# Altium integrated library SmartLoad_LIB.IntLib: 50 symbols (part 2 of 2)
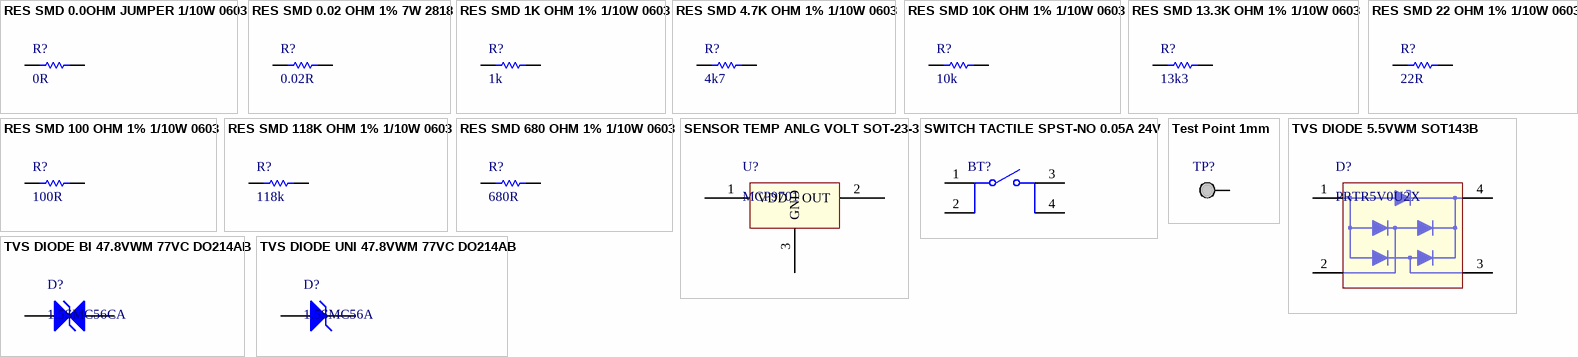
[diagram p2: symbols RES SMD 0.0OHM JUMPER 1/10W 0603 to TVS DIODE UNI 47.8VWM 77VC DO214AB]

## TVS DIODE 5.5VWM SOT143B
designator D?, comment PRTR5V0U2X
TVS DIODE 5.5VWM SOT143B; Manufacturer: NXP Semiconductors; Manufacturer Part Number: PRTR5V0U2X,215; Type: Steering (Rail to Rail); Unidirectional Channels: 2; Voltage - Reverse Standoff (Typ): 5.5V (Max); Voltage - Breakdown (Min): 6V; Power Line Protection: Yes; Capacitance @ Frequency: 1pF @ 1MHz; Supplier 1: Digi-Key; RoHS: RoHS Compliant; Category: Circuit Protection; Stock 1: 20795; Pricing 1: 1=0.52, 10=0.448, 100=0.3347, 500=0.26286, 1000=0.20265 (USD); Packaging: Cut Tape (CT); Part Status: Active; Bidirectional Channels: -; Voltage - Clamping (Max) @ Ipp: -; Current - Peak Pulse (10/1000µs): -; Power - Peak Pulse: -; Applications: General Purpose; Operating Temperature: -40°C ~ 85°C (TA); Mounting Type: Surface Mount; Package / Case: TO-253-4, TO-253AA; Supplier Device Package: SOT-143B; ComponentLink1URL: http://www.nxp.com/documents/data_sheet/PRTR5V0U2X.pdf; ComponentLink1Description: http://www.nxp.com/documents/data_sheet/PRTR5V0U2X.pdf; Supplier Part Number 1: 568-4140-1-ND
footprint SOT143 N (SOT143, 4-Leads, Body 2,90x2,30mm, Pitch 1,90mm, IPC Medium Density)
pins: 1, 2, 3, 4

## TVS DIODE BI 47.8VWM 77VC DO214AB
designator D?, comment 1.5SMC56CA
TVS DIODE 47.8VWM 77VC DO214AB; Manufacturer: Vishay Semiconductor Diodes Division; Manufacturer Part Number: 1.5SMC56CA-E3/57T; Type: Zener; Bidirectional Channels: 1; Voltage - Reverse Standoff (Typ): 47.8V; Voltage - Breakdown (Min): 53.2V; Voltage - Clamping (Max) @ Ipp: 77V; Current - Peak Pulse (10/1000µs): 19.5A; Power - Peak Pulse: 1500W (1.5kW); Power Line Protection: No; Supplier 1: Digi-Key; RoHS: RoHS Compliant; Category: Circuit Protection; Stock 1: 148; Pricing 1: 1=0.62, 10=0.544, 25=0.5108, 100=0.4169, 250=0.38728 (USD); Packaging: Cut Tape (CT); Part Status: Active; Unidirectional Channels: -; Applications: General Purpose; Capacitance @ Frequency: -; Operating Temperature: -65°C ~ 150°C (TJ); Mounting Type: Surface Mount; Package / Case: DO-214AB, SMC; Supplier Device Package: DO-214AB (SMCJ); ComponentLink1URL: http://www.vishay.com/docs/88303/15smcseries.pdf; ComponentLink1Description: http://www.vishay.com/docs/88303/15smcseries.pdf; Supplier Part Number 1: 1.5SMC56CA-E3/57TGICT-ND
footprint DO214-AB BIDIR (SMC)
pins: 1 A, 2 K

## TVS DIODE UNI 47.8VWM 77VC DO214AB
designator D?, comment 1.5SMC56A
TVS DIODE 47.8VWM 77VC DO214AB; Manufacturer: Vishay Semiconductor Diodes Division; Manufacturer Part Number: 1.5SMC56A-E3/57T; Type: Zener; Unidirectional Channels: 1; Voltage - Reverse Standoff (Typ): 47.8V; Voltage - Breakdown (Min): 53.2V; Voltage - Clamping (Max) @ Ipp: 77V; Current - Peak Pulse (10/1000µs): 19.5A; Power - Peak Pulse: 1500W (1.5kW); Power Line Protection: No; Supplier 1: Digi-Key; RoHS: RoHS Compliant; Category: Circuit Protection; Stock 1: 845; Pricing 1: 1=0.56, 10=0.483, 25=0.4508, 100=0.3605, 250=0.33476 (USD); Packaging: Cut Tape (CT); Part Status: Active; Bidirectional Channels: -; Applications: General Purpose; Capacitance @ Frequency: -; Operating Temperature: -65°C ~ 150°C (TJ); Mounting Type: Surface Mount; Package / Case: DO-214AB, SMC; Supplier Device Package: DO-214AB (SMCJ); ComponentLink1URL: http://www.vishay.com/docs/88303/15smcseries.pdf; ComponentLink1Description: http://www.vishay.com/docs/88303/15smcseries.pdf; Supplier Part Number 1: 1.5SMC56A-E3/57TGICT-ND
footprint DO214-AB (SMC)
pins: 1 A, 2 K